# EAGLE library part ATMEGA328P (library martinmake)
32A, 32-lead, 7 x 7 mm Body Size, 1.0 mm Body Thickness, 0.8 mm Lead Pitch, Thin Profile Plastic Quad Flat Package (TQFP)
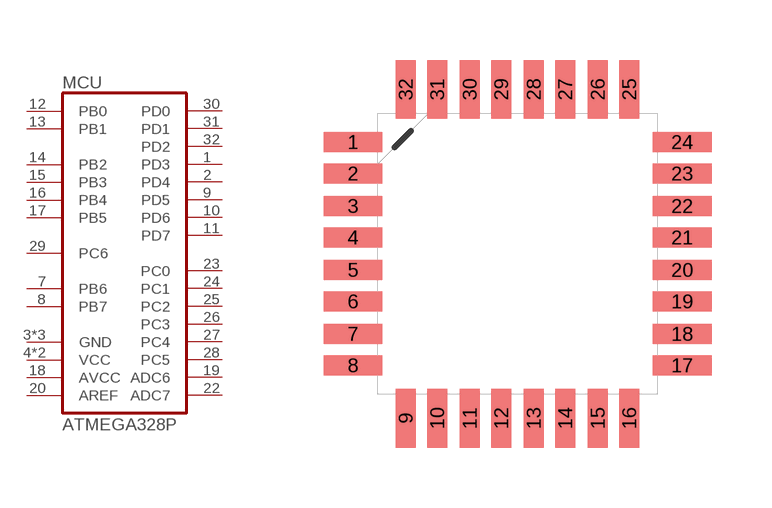
[diagram p0: symbol with the pads of TQFP32; footprint TQFP32]

Designator prefix MCU

## ATMEGA328PMA  [TQFP32]
1  PD3
2  PD4
3  GND
4  VCC
5  GND
6  VCC
7  PB6  pwr
8  PB7  in
9  PD5
10  PD6
11  PD7
12  PB0
13  PB1
14  PB2
15  PB3
16  PB4
17  PB5  out
18  AVCC
19  ADC6
20  AREF
21  GND
22  ADC7
23  PC0
24  PC1
25  PC2
26  PC3
27  PC4
28  PC5
29  PC6  in
30  PD0
31  PD1
32  PD2

## Footprint TQFP32 (pad centres in mm)
smd 1.473 x 0.508: 1 -4.115,2.794; 2 -4.115,2.007; 3 -4.115,1.194; 4 -4.115,0.406; 5 -4.115,-0.406; 6 -4.115,-1.194; 7 -4.115,-2.007; 8 -4.115,-2.794; 17 4.115,-2.794; 18 4.115,-2.007; 19 4.115,-1.194; 20 4.115,-0.406; 21 4.115,0.406; 22 4.115,1.194; 23 4.115,2.007; 24 4.115,2.794
smd 0.508 x 1.473: 9 -2.794,-4.115; 10 -2.007,-4.115; 11 -1.194,-4.115; 12 -0.406,-4.115; 13 0.406,-4.115; 14 1.194,-4.115; 15 2.007,-4.115; 16 2.794,-4.115; 25 2.794,4.115; 26 2.007,4.115; 27 1.194,4.115; 28 0.406,4.115; 29 -0.406,4.115; 30 -1.194,4.115; 31 -2.007,4.115; 32 -2.794,4.115